# Altium footprint library ArduinoMiniPro.PcbLib: 1 footprints
Each footprint in its own frame and in the unit in brackets; x right, y up, seen from the top. Pads: shape width x height; smd on the part's side, far side on the other; paste and mask are expansions set on the pad; w line width, h text height; cw(c..) or ccw(c..) is an arc to the next point about the centre after c.
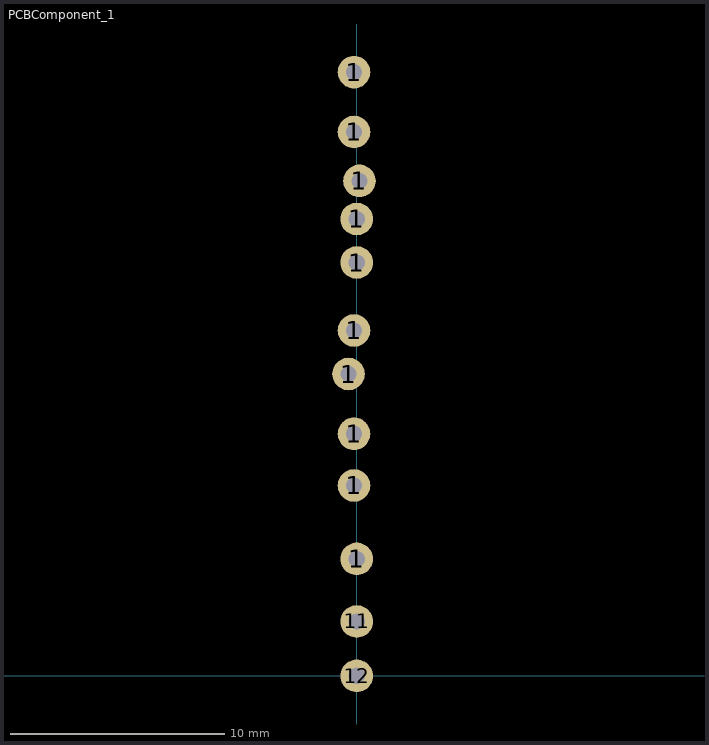
[diagram p0: the footprint, top view; thin cyan lines are the x and y axes]

## PCBComponent_1 [mil]
pads (12):
  round 60 hole 30: 1(-15,555) 1(-5,350) 1(-5,445) 1(-5,635) 1(-5,1000) 1(-5,1110) 1(0,215) 1(0,760) 1(0,840) 1(5,910) 11(0,100) 12(0,0)